# EAGLE library part TLC5971-RGE (library dr-library)
TLC5971 12-Channel, 16-Bit, Enhanced Spectrum, PWM, RGB, LED Driver With 3.3-V Linear Regulator Package - VQFN24 4.00mm x 4.00mm http://www.ti.com/lit/ds/symlink/tlc5971.pdf
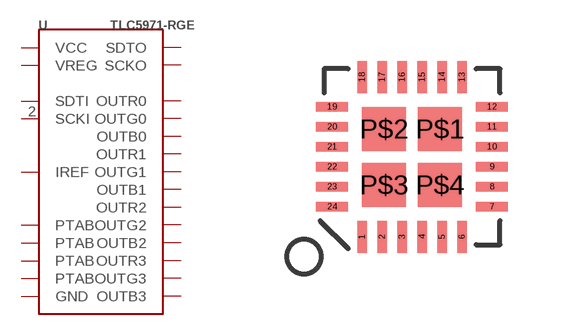
[diagram p31: symbol with the pads of VQFN-24; footprint VQFN-24]

Designator prefix U

## TLC5971-RGE  [VQFN-24]
1  SDTI
2  SCKI
3  NC  nc
4  NC  nc
5  SCKO
6  SDTO
7  OUTR2
8  OUTG2
9  OUTB2
10  OUTR3
11  OUTG3
12  OUTB3
13  VCC
14  NC  nc
15  VREG
16  IREF
17  NC  nc
18  GND
19  OUTR0
20  OUTG0
21  OUTB0
22  OUTR1
23  OUTG1
24  OUTB1
P$1  PTAB
P$2  PTAB
P$3  PTAB
P$4  PTAB

## Footprint VQFN-24 (pad centres in mm)
smd 0.23 x 0.8: 1 -1.25,-2; 2 -0.75,-2; 3 -0.25,-2; 4 0.25,-2; 5 0.75,-2; 6 1.25,-2; 13 1.25,2; 14 0.75,2; 15 0.25,2; 16 -0.25,2; 17 -0.75,2; 18 -1.25,2
smd 0.8 x 0.23: 7 2,-1.25; 8 2,-0.75; 9 2,-0.25; 10 2,0.25; 11 2,0.75; 12 2,1.25; 19 -2,1.25; 20 -2,0.75; 21 -2,0.25; 22 -2,-0.25; 23 -2,-0.75; 24 -2,-1.25
smd 1.1 x 1.1: P$1 0.7,0.7; P$2 -0.7,0.7; P$3 -0.7,-0.7; P$4 0.7,-0.7